# Altium schematic symbol library B02P-XL-HDS___LF__SN_.SchLib: 1 symbol
Pins are listed as number, name and electrical type; pins without a type are passive.

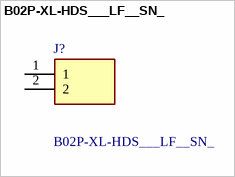
[diagram p0: symbol B02P-XL-HDS___LF__SN_]

## B02P-XL-HDS___LF__SN_
designator J?
JST, XL, 2 Way, 2 Row, Top Entry PCB Header; Manufacturer_Name: JST (JAPAN SOLDERLESS TERMINALS); Manufacturer_Part_Number: B02P-XL-HDS  (LF)(SN); Geometry.Height: 14.6mm; Mouser Part Number: *; Mouser Price/Stock: *; Arrow Part Number: *; Arrow Price/Stock: *; Datasheet Link: http://uk.rs-online.com/web/p/products/1856766
footprint SHDR2W120P580X500_2X1_790X1380X1460P
pins: 1, 2